# Altium integrated library Microchip PIC16 Part 1.IntLib: 1800 symbols (part 33 of 93)
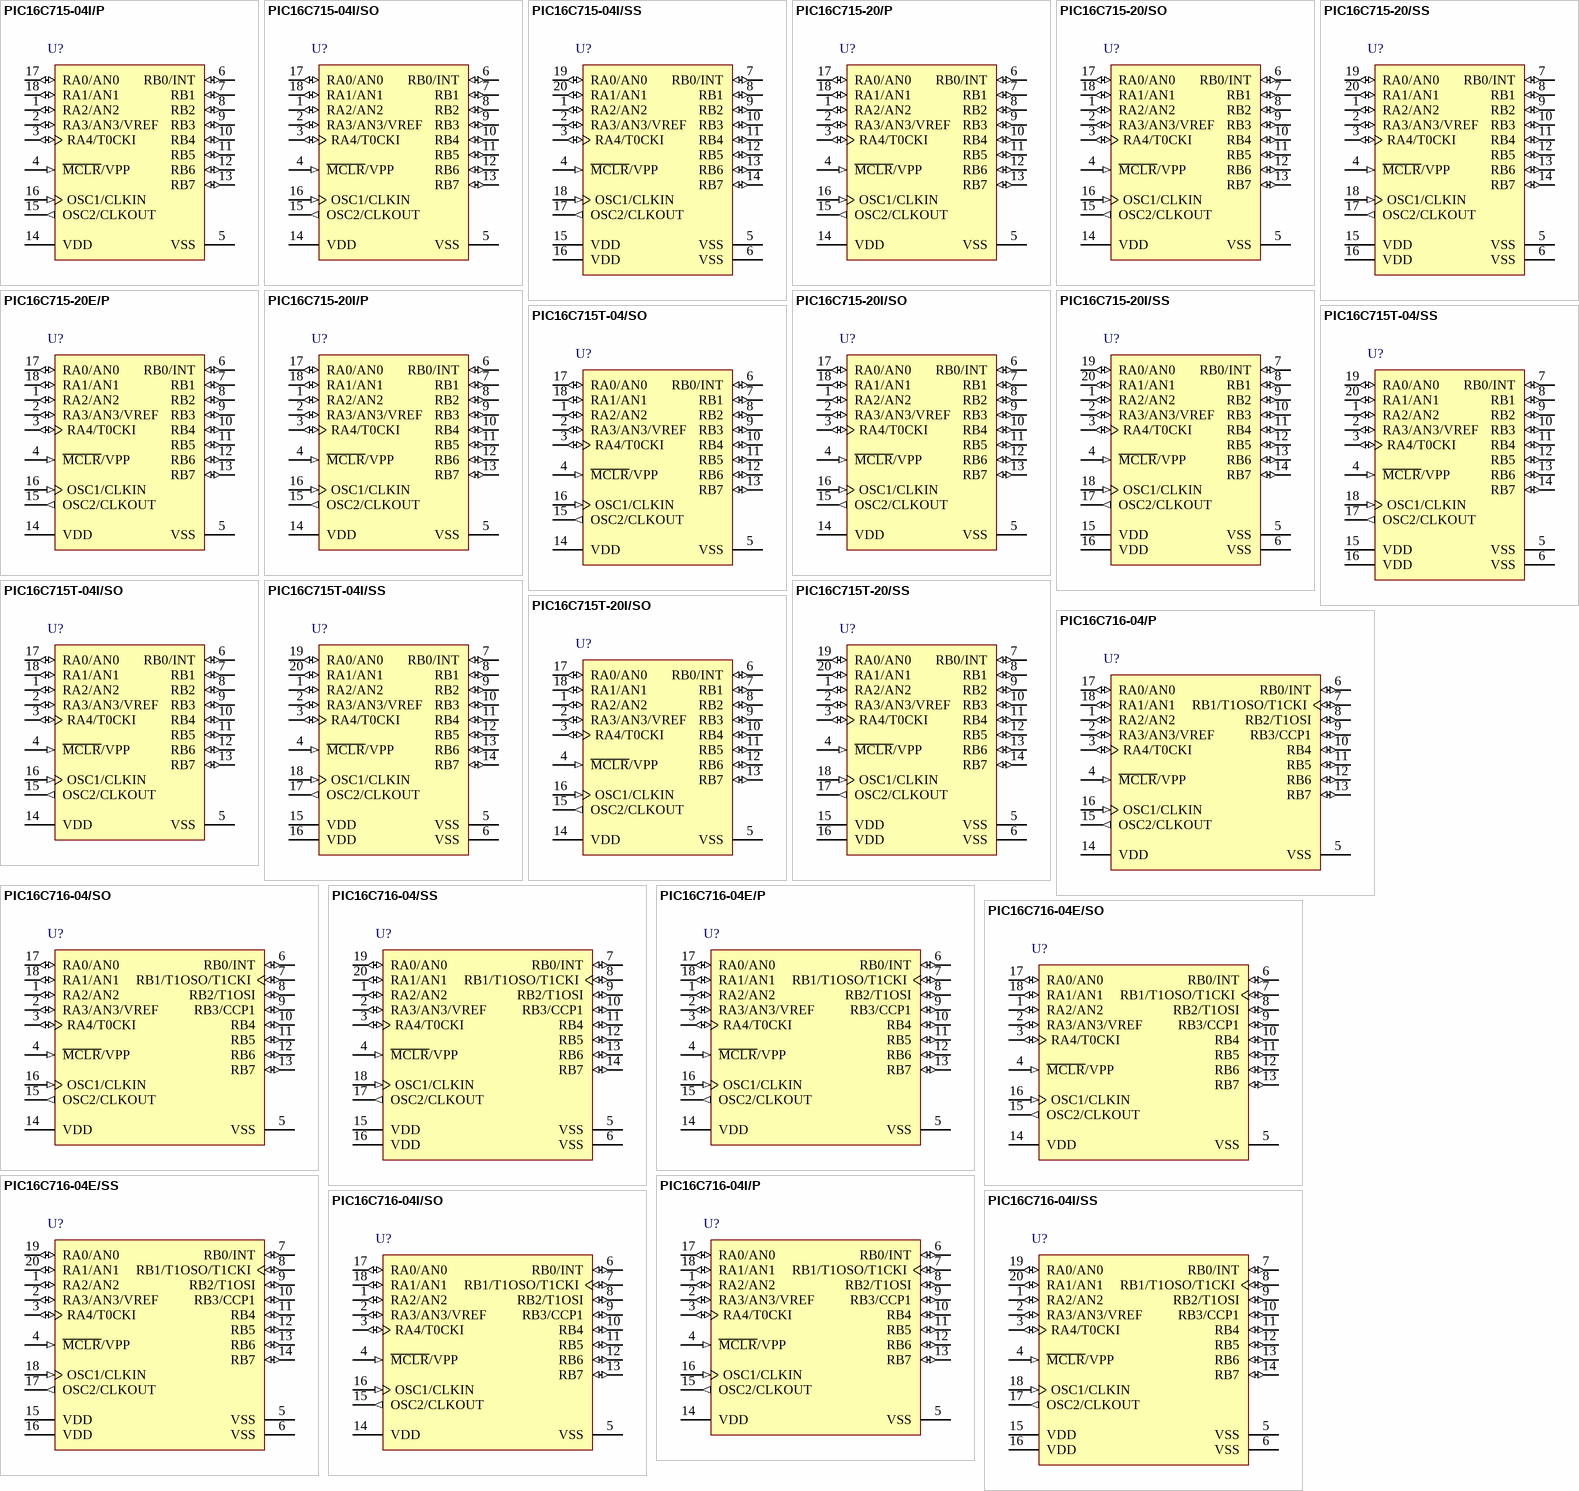
[diagram p132: symbols PIC16C715-04I/P to PIC16C716-04I/SS]

## PIC16C715-04I/P
designator U?
8-Bit CMOS Microcontroller with A/D Converter, 4 MHz, 13 I/O, -40 to 85 degC, 18-pin PDIP (P18), Tube; Manufacturer: Microchip; PartNumber: PIC16C715-04I/P; # of A/D Channels: 4; Digital Communication: 0 -UART, 0 -A/E/USART, 0 -SPI, 0 -I2C; I/O Pins: 13; Memory Type: OTP; Operation Voltage Range: 4V - 6V; Program Memory KBytes: 3.5; Program Memory KWords: 2; RAM: 128; Timers: 1 - 8-bit; DatasheetVersion: Rev. A; PackageVersion: C04-007B, 12/2012; PackageReference: PDIP-P18; PackageDescription: 18-Lead Plastic Dual In-Line, Row Spacing 7.62 mm, 22.86 x 6.6 mm Body, 2.54 mm Pitch; Supplier 1: Digi-Key; Supplier Part Number 1: PIC16C715-04I/P-ND; Supplier 2: Newark; Supplier Part Number 2: 23C4529; Supplier 3: Mouser; Supplier Part Number 3: 579-PIC16C715-04I/P; Max. CPU Speed MHz: 4; Packing: TUBE; RoHS: TRUE; Mounting Technology: Through Hole; ComponentLink1Description: Datasheet; ComponentLink1URL: http://ww1.microchip.com/downloads/en/DeviceDoc/30272a.pdf; ComponentLink2Description: Package Specification; ComponentLink2URL: http://www.microchip.com/stellent/groups/techpub_sg/documents/packagingspec/en012702.pdf; ComponentLink3Description: URL Link1; ComponentLink3URL: Product URL:http://www.microchip.com/datasheet/PIC16C715
footprint MCHP-PDIP-P18 (DIP, 18-Leads, Body 22.83x6.604mm, Pitch 2.54mm)
pins: 1 RA2/AN2 (io), 2 RA3/AN3/VREF (io), 3 RA4/T0CKI (io), 4 ~{MCLR}/VPP (in), 5 VSS (power) "Ground reference for logic and I/O pins.", 6 RB0/INT (io), 7 RB1 (io) "PORTB is a bi-directional I/O port. PORTB can be software programmed for internal weak pull-up on all inputs.", 8 RB2 (io) "PORTB is a bi-directional I/O port. PORTB can be software programmed for internal weak pull-up on all inputs.", 9 RB3 (io) "PORTB is a bi-directional I/O port. PORTB can be software programmed for internal weak pull-up on all inputs.", 10 RB4 (io) "PORTB is a bi-directional I/O port. PORTB can be software programmed for internal weak pull-up on all inputs. Interrupt on change pin.", 11 RB5 (io) "PORTB is a bi-directional I/O port. PORTB can be software programmed for internal weak pull-up on all inputs. Interrupt on change pin.", 12 RB6 (io) "PORTB is a bi-directional I/O port. PORTB can be software programmed for internal weak pull-up on all inputs. Interrupt on change pin. Serial programming clock.", 13 RB7 (io) "PORTB is a bi-directional I/O port. PORTB can be software programmed for internal weak pull-up on all inputs. Interrupt on change pin. Serial programming data", 14 VDD (power) "Positive supply for logic and I/O pins.", 15 OSC2/CLKOUT (out), 16 OSC1/CLKIN (in), 17 RA0/AN0 (io), 18 RA1/AN1 (io)

## PIC16C715-04I/SO
designator U?
8-Bit CMOS Microcontroller with A/D Converter, 4 MHz, 13 I/O, -40 to 85 degC, 18-pin SOIC (SO18), Tube; Manufacturer: Microchip; PartNumber: PIC16C715-04I/SO; # of A/D Channels: 4; Digital Communication: 0 -UART, 0 -A/E/USART, 0 -SPI, 0 -I2C; I/O Pins: 13; Memory Type: OTP; Operation Voltage Range: 4V - 6V; Program Memory KBytes: 3.5; Program Memory KWords: 2; RAM: 128; Timers: 1 - 8-bit; DatasheetVersion: Rev. A; PackageVersion: C04-051C, 12/2012; PackageReference: SOIC-SO18; PackageDescription: 18-Lead Plastic Small Outline, 7.5 x 11.55 mm Body, 1.27 mm Pitch; Supplier 1: Digi-Key; Supplier Part Number 1: PIC16C715-04I/SO-ND; Supplier 2: Newark; Supplier Part Number 2: 23C4530; Supplier 3: Mouser; Supplier Part Number 3: 579-PIC16C715-04I/SO; Max. CPU Speed MHz: 4; Packing: TUBE; RoHS: TRUE; Mounting Technology: Surface Mount; ComponentLink1Description: Datasheet; ComponentLink1URL: http://ww1.microchip.com/downloads/en/DeviceDoc/30272a.pdf; ComponentLink2Description: Package Specification; ComponentLink2URL: http://www.microchip.com/stellent/groups/techpub_sg/documents/packagingspec/en012702.pdf; ComponentLink3Description: URL Link1; ComponentLink3URL: Product URL:http://www.microchip.com/datasheet/PIC16C715
footprint MCHP-SOIC-SO18_N (SOIC, 18-Leads, Body 11.55x7.5mm, Pitch 1.27mm, IPC Medium Density)
footprint MCHP-SOIC-SO18_L (SOIC, 18-Leads, Body 11.55x7.5mm, Pitch 1.27mm, IPC High Density)
footprint MCHP-SOIC-SO18_M (SOIC, 18-Leads, Body 11.55x7.5mm, Pitch 1.27mm, IPC Low Density)
pins: 1 RA2/AN2 (io), 2 RA3/AN3/VREF (io), 3 RA4/T0CKI (io), 4 ~{MCLR}/VPP (in), 5 VSS (power) "Ground reference for logic and I/O pins.", 6 RB0/INT (io), 7 RB1 (io) "PORTB is a bi-directional I/O port. PORTB can be software programmed for internal weak pull-up on all inputs.", 8 RB2 (io) "PORTB is a bi-directional I/O port. PORTB can be software programmed for internal weak pull-up on all inputs.", 9 RB3 (io) "PORTB is a bi-directional I/O port. PORTB can be software programmed for internal weak pull-up on all inputs.", 10 RB4 (io) "PORTB is a bi-directional I/O port. PORTB can be software programmed for internal weak pull-up on all inputs. Interrupt on change pin.", 11 RB5 (io) "PORTB is a bi-directional I/O port. PORTB can be software programmed for internal weak pull-up on all inputs. Interrupt on change pin.", 12 RB6 (io) "PORTB is a bi-directional I/O port. PORTB can be software programmed for internal weak pull-up on all inputs. Interrupt on change pin. Serial programming clock.", 13 RB7 (io) "PORTB is a bi-directional I/O port. PORTB can be software programmed for internal weak pull-up on all inputs. Interrupt on change pin. Serial programming data", 14 VDD (power) "Positive supply for logic and I/O pins.", 15 OSC2/CLKOUT (out), 16 OSC1/CLKIN (in), 17 RA0/AN0 (io), 18 RA1/AN1 (io)

## PIC16C715-04I/SS
designator U?
8-Bit CMOS Microcontroller with A/D Converter, 4 MHz, 13 I/O, -40 to 85 degC, 20-pin SSOP (SS20), Tube; Manufacturer: Microchip; PartNumber: PIC16C715-04I/SS; # of A/D Channels: 4; Digital Communication: 0 -UART, 0 -A/E/USART, 0 -SPI, 0 -I2C; I/O Pins: 13; Memory Type: OTP; Operation Voltage Range: 4V - 6V; Program Memory KBytes: 3.5; Program Memory KWords: 2; RAM: 128; Timers: 1 - 8-bit; DatasheetVersion: Rev. A; PackageVersion: C04-072B, 12/2012; PackageReference: SSOP-SS20; PackageDescription: 20-Lead Plastic Shrink Small Outline, 5.3 x 7.2 mm Body, 0.65 mm Pitch; Supplier 1: Digi-Key; Supplier Part Number 1: PIC16C715-04I/SS-ND; Supplier 2: Mouser; Supplier Part Number 2: 579-PIC16C715-04I/SS; Max. CPU Speed MHz: 4; Packing: TUBE; RoHS: TRUE; Mounting Technology: Surface Mount; ComponentLink1Description: Datasheet; ComponentLink1URL: http://ww1.microchip.com/downloads/en/DeviceDoc/30272a.pdf; ComponentLink2Description: Package Specification; ComponentLink2URL: http://www.microchip.com/stellent/groups/techpub_sg/documents/packagingspec/en012702.pdf; ComponentLink3Description: URL Link1; ComponentLink3URL: Product URL:http://www.microchip.com/datasheet/PIC16C715
footprint MCHP-SSOP-SS20_N (SOP, 20-Leads, Body 7.2x5.3mm, Pitch 0.65mm, IPC Medium Density)
footprint MCHP-SSOP-SS20_L (SOP, 20-Leads, Body 7.2x5.3mm, Pitch 0.65mm, IPC High Density)
footprint MCHP-SSOP-SS20_M (SOP, 20-Leads, Body 7.2x5.3mm, Pitch 0.65mm, IPC Low Density)
pins: 1 RA2/AN2 (io), 2 RA3/AN3/VREF (io), 3 RA4/T0CKI (io), 4 ~{MCLR}/VPP (in), 5 VSS (power) "Ground reference for logic and I/O pins.", 6 VSS (power) "Ground reference for logic and I/O pins.", 7 RB0/INT (io), 8 RB1 (io) "PORTB is a bi-directional I/O port. PORTB can be software programmed for internal weak pull-up on all inputs.", 9 RB2 (io) "PORTB is a bi-directional I/O port. PORTB can be software programmed for internal weak pull-up on all inputs.", 10 RB3 (io) "PORTB is a bi-directional I/O port. PORTB can be software programmed for internal weak pull-up on all inputs.", 11 RB4 (io) "PORTB is a bi-directional I/O port. PORTB can be software programmed for internal weak pull-up on all inputs. Interrupt-on-change pin.", 12 RB5 (io) "PORTB is a bi-directional I/O port. PORTB can be software programmed for internal weak pull-up on all inputs. Interrupt-on-change pin.", 13 RB6 (io) "PORTB is a bi-directional I/O port. PORTB can be software programmed for internal weak pull-up on all inputs. Interrupt-on-change pin. Serial programming clock", 14 RB7 (io) "PORTB is a bi-directional I/O port. PORTB can be software programmed for internal weak pull-up on all inputs. Interrupt-on-change pin. Serial programming data", 15 VDD (power) "Positive supply for logic and I/O pins", 16 VDD (power) "Positive supply for logic and I/O pins", 17 OSC2/CLKOUT (out), 18 OSC1/CLKIN (in), 19 RA0/AN0 (io), 20 RA1/AN1 (io)

## PIC16C715-20/P
designator U?
8-Bit CMOS Microcontroller with A/D Converter, 20 MHz, 13 I/O, 0 to 70 degC, 18-pin PDIP (P18), Tube; Manufacturer: Microchip; PartNumber: PIC16C715-20/P; # of A/D Channels: 4; Digital Communication: 0 -UART, 0 -A/E/USART, 0 -SPI, 0 -I2C; I/O Pins: 13; Max. CPU Speed MHz: 20; Memory Type: OTP; Operation Voltage Range: 4V - 6V; Program Memory KBytes: 3.5; Program Memory KWords: 2; RAM: 128; Timers: 1 - 8-bit; DatasheetVersion: Rev. A; PackageVersion: C04-007B, 12/2012; PackageReference: PDIP-P18; PackageDescription: 18-Lead Plastic Dual In-Line, Row Spacing 7.62 mm, 22.86 x 6.6 mm Body, 2.54 mm Pitch; Supplier 1: Digi-Key; Supplier Part Number 1: PIC16C715-20/P-ND; Supplier 2: Farnell; Supplier Part Number 2: 1084361; Supplier 3: Newark; Supplier Part Number 3: 97K7271; Supplier 4: Newark; Supplier Part Number 4: 69K7627; Supplier 5: Mouser; Supplier Part Number 5: 579-PIC16C715-20/P; Packing: TUBE; RoHS: TRUE; Mounting Technology: Through Hole; ComponentLink1Description: Datasheet; ComponentLink1URL: http://ww1.microchip.com/downloads/en/DeviceDoc/30272a.pdf; ComponentLink2Description: Package Specification; ComponentLink2URL: http://www.microchip.com/stellent/groups/techpub_sg/documents/packagingspec/en012702.pdf; ComponentLink3Description: URL Link1; ComponentLink3URL: Product URL:http://www.microchip.com/datasheet/PIC16C715
footprint MCHP-PDIP-P18 (DIP, 18-Leads, Body 22.83x6.604mm, Pitch 2.54mm)
pins: 1 RA2/AN2 (io), 2 RA3/AN3/VREF (io), 3 RA4/T0CKI (io), 4 ~{MCLR}/VPP (in), 5 VSS (power) "Ground reference for logic and I/O pins.", 6 RB0/INT (io), 7 RB1 (io) "PORTB is a bi-directional I/O port. PORTB can be software programmed for internal weak pull-up on all inputs.", 8 RB2 (io) "PORTB is a bi-directional I/O port. PORTB can be software programmed for internal weak pull-up on all inputs.", 9 RB3 (io) "PORTB is a bi-directional I/O port. PORTB can be software programmed for internal weak pull-up on all inputs.", 10 RB4 (io) "PORTB is a bi-directional I/O port. PORTB can be software programmed for internal weak pull-up on all inputs. Interrupt on change pin.", 11 RB5 (io) "PORTB is a bi-directional I/O port. PORTB can be software programmed for internal weak pull-up on all inputs. Interrupt on change pin.", 12 RB6 (io) "PORTB is a bi-directional I/O port. PORTB can be software programmed for internal weak pull-up on all inputs. Interrupt on change pin. Serial programming clock.", 13 RB7 (io) "PORTB is a bi-directional I/O port. PORTB can be software programmed for internal weak pull-up on all inputs. Interrupt on change pin. Serial programming data", 14 VDD (power) "Positive supply for logic and I/O pins.", 15 OSC2/CLKOUT (out), 16 OSC1/CLKIN (in), 17 RA0/AN0 (io), 18 RA1/AN1 (io)

## PIC16C715-20/SO
designator U?
8-Bit CMOS Microcontroller with A/D Converter, 20 MHz, 13 I/O, 0 to 70 degC, 18-pin SOIC (SO18), Tube; Manufacturer: Microchip; PartNumber: PIC16C715-20/SO; # of A/D Channels: 4; Digital Communication: 0 -UART, 0 -A/E/USART, 0 -SPI, 0 -I2C; I/O Pins: 13; Max. CPU Speed MHz: 20; Memory Type: OTP; Operation Voltage Range: 4V - 6V; Program Memory KBytes: 3.5; Program Memory KWords: 2; RAM: 128; Timers: 1 - 8-bit; DatasheetVersion: Rev. A; PackageVersion: C04-051C, 12/2012; PackageReference: SOIC-SO18; PackageDescription: 18-Lead Plastic Small Outline, 7.5 x 11.55 mm Body, 1.27 mm Pitch; Supplier 1: Digi-Key; Supplier Part Number 1: PIC16C715-20/SO-ND; Supplier 2: Newark; Supplier Part Number 2: 23C4533; Supplier 3: Mouser; Supplier Part Number 3: 579-PIC16C715-20/SO; Packing: TUBE; RoHS: TRUE; Mounting Technology: Surface Mount; ComponentLink1Description: Datasheet; ComponentLink1URL: http://ww1.microchip.com/downloads/en/DeviceDoc/30272a.pdf; ComponentLink2Description: Package Specification; ComponentLink2URL: http://www.microchip.com/stellent/groups/techpub_sg/documents/packagingspec/en012702.pdf; ComponentLink3Description: URL Link1; ComponentLink3URL: Product URL:http://www.microchip.com/datasheet/PIC16C715
footprint MCHP-SOIC-SO18_N (SOIC, 18-Leads, Body 11.55x7.5mm, Pitch 1.27mm, IPC Medium Density)
footprint MCHP-SOIC-SO18_L (SOIC, 18-Leads, Body 11.55x7.5mm, Pitch 1.27mm, IPC High Density)
footprint MCHP-SOIC-SO18_M (SOIC, 18-Leads, Body 11.55x7.5mm, Pitch 1.27mm, IPC Low Density)
pins: 1 RA2/AN2 (io), 2 RA3/AN3/VREF (io), 3 RA4/T0CKI (io), 4 ~{MCLR}/VPP (in), 5 VSS (power) "Ground reference for logic and I/O pins.", 6 RB0/INT (io), 7 RB1 (io) "PORTB is a bi-directional I/O port. PORTB can be software programmed for internal weak pull-up on all inputs.", 8 RB2 (io) "PORTB is a bi-directional I/O port. PORTB can be software programmed for internal weak pull-up on all inputs.", 9 RB3 (io) "PORTB is a bi-directional I/O port. PORTB can be software programmed for internal weak pull-up on all inputs.", 10 RB4 (io) "PORTB is a bi-directional I/O port. PORTB can be software programmed for internal weak pull-up on all inputs. Interrupt on change pin.", 11 RB5 (io) "PORTB is a bi-directional I/O port. PORTB can be software programmed for internal weak pull-up on all inputs. Interrupt on change pin.", 12 RB6 (io) "PORTB is a bi-directional I/O port. PORTB can be software programmed for internal weak pull-up on all inputs. Interrupt on change pin. Serial programming clock.", 13 RB7 (io) "PORTB is a bi-directional I/O port. PORTB can be software programmed for internal weak pull-up on all inputs. Interrupt on change pin. Serial programming data", 14 VDD (power) "Positive supply for logic and I/O pins.", 15 OSC2/CLKOUT (out), 16 OSC1/CLKIN (in), 17 RA0/AN0 (io), 18 RA1/AN1 (io)

## PIC16C715-20/SS
designator U?
8-Bit CMOS Microcontroller with A/D Converter, 20 MHz, 13 I/O, 0 to 70 degC, 20-pin SSOP (SS20), Tube; Manufacturer: Microchip; PartNumber: PIC16C715-20/SS; # of A/D Channels: 4; Digital Communication: 0 -UART, 0 -A/E/USART, 0 -SPI, 0 -I2C; I/O Pins: 13; Max. CPU Speed MHz: 20; Memory Type: OTP; Operation Voltage Range: 4V - 6V; Program Memory KBytes: 3.5; Program Memory KWords: 2; RAM: 128; Timers: 1 - 8-bit; DatasheetVersion: Rev. A; PackageVersion: C04-072B, 12/2012; PackageReference: SSOP-SS20; PackageDescription: 20-Lead Plastic Shrink Small Outline, 5.3 x 7.2 mm Body, 0.65 mm Pitch; Supplier 1: Digi-Key; Supplier Part Number 1: PIC16C715-20/SS-ND; Supplier 2: Mouser; Supplier Part Number 2: 579-PIC16C715-20/SS; Packing: TUBE; RoHS: TRUE; Mounting Technology: Surface Mount; ComponentLink1Description: Datasheet; ComponentLink1URL: http://ww1.microchip.com/downloads/en/DeviceDoc/30272a.pdf; ComponentLink2Description: Package Specification; ComponentLink2URL: http://www.microchip.com/stellent/groups/techpub_sg/documents/packagingspec/en012702.pdf; ComponentLink3Description: URL Link1; ComponentLink3URL: Product URL:http://www.microchip.com/datasheet/PIC16C715
footprint MCHP-SSOP-SS20_N (SOP, 20-Leads, Body 7.2x5.3mm, Pitch 0.65mm, IPC Medium Density)
footprint MCHP-SSOP-SS20_L (SOP, 20-Leads, Body 7.2x5.3mm, Pitch 0.65mm, IPC High Density)
footprint MCHP-SSOP-SS20_M (SOP, 20-Leads, Body 7.2x5.3mm, Pitch 0.65mm, IPC Low Density)
pins: 1 RA2/AN2 (io), 2 RA3/AN3/VREF (io), 3 RA4/T0CKI (io), 4 ~{MCLR}/VPP (in), 5 VSS (power) "Ground reference for logic and I/O pins.", 6 VSS (power) "Ground reference for logic and I/O pins.", 7 RB0/INT (io), 8 RB1 (io) "PORTB is a bi-directional I/O port. PORTB can be software programmed for internal weak pull-up on all inputs.", 9 RB2 (io) "PORTB is a bi-directional I/O port. PORTB can be software programmed for internal weak pull-up on all inputs.", 10 RB3 (io) "PORTB is a bi-directional I/O port. PORTB can be software programmed for internal weak pull-up on all inputs.", 11 RB4 (io) "PORTB is a bi-directional I/O port. PORTB can be software programmed for internal weak pull-up on all inputs. Interrupt-on-change pin.", 12 RB5 (io) "PORTB is a bi-directional I/O port. PORTB can be software programmed for internal weak pull-up on all inputs. Interrupt-on-change pin.", 13 RB6 (io) "PORTB is a bi-directional I/O port. PORTB can be software programmed for internal weak pull-up on all inputs. Interrupt-on-change pin. Serial programming clock", 14 RB7 (io) "PORTB is a bi-directional I/O port. PORTB can be software programmed for internal weak pull-up on all inputs. Interrupt-on-change pin. Serial programming data", 15 VDD (power) "Positive supply for logic and I/O pins", 16 VDD (power) "Positive supply for logic and I/O pins", 17 OSC2/CLKOUT (out), 18 OSC1/CLKIN (in), 19 RA0/AN0 (io), 20 RA1/AN1 (io)

## PIC16C715-20E/P
designator U?
8-Bit CMOS Microcontroller with A/D Converter, 20 MHz, 13 I/O, -40 to 125 degC, 18-pin PDIP (P18), Tube; Manufacturer: Microchip; PartNumber: PIC16C715-20E/P; # of A/D Channels: 4; Digital Communication: 0 -UART, 0 -A/E/USART, 0 -SPI, 0 -I2C; I/O Pins: 13; Max. CPU Speed MHz: 20; Memory Type: OTP; Operation Voltage Range: 4V - 6V; Program Memory KBytes: 3.5; Program Memory KWords: 2; RAM: 128; Timers: 1 - 8-bit; DatasheetVersion: Rev. A; PackageVersion: C04-007B, 12/2012; PackageReference: PDIP-P18; PackageDescription: 18-Lead Plastic Dual In-Line, Row Spacing 7.62 mm, 22.86 x 6.6 mm Body, 2.54 mm Pitch; Supplier 1: Digi-Key; Supplier Part Number 1: PIC16C715-20E/P-ND; Supplier 2: Mouser; Supplier Part Number 2: 579-PIC16C715-20E/P; Packing: TUBE; RoHS: TRUE; Mounting Technology: Through Hole; ComponentLink1Description: Datasheet; ComponentLink1URL: http://ww1.microchip.com/downloads/en/DeviceDoc/30272a.pdf; ComponentLink2Description: Package Specification; ComponentLink2URL: http://www.microchip.com/stellent/groups/techpub_sg/documents/packagingspec/en012702.pdf; ComponentLink3Description: URL Link1; ComponentLink3URL: Product URL:http://www.microchip.com/datasheet/PIC16C715
footprint MCHP-PDIP-P18 (DIP, 18-Leads, Body 22.83x6.604mm, Pitch 2.54mm)
pins: 1 RA2/AN2 (io), 2 RA3/AN3/VREF (io), 3 RA4/T0CKI (io), 4 ~{MCLR}/VPP (in), 5 VSS (power) "Ground reference for logic and I/O pins.", 6 RB0/INT (io), 7 RB1 (io) "PORTB is a bi-directional I/O port. PORTB can be software programmed for internal weak pull-up on all inputs.", 8 RB2 (io) "PORTB is a bi-directional I/O port. PORTB can be software programmed for internal weak pull-up on all inputs.", 9 RB3 (io) "PORTB is a bi-directional I/O port. PORTB can be software programmed for internal weak pull-up on all inputs.", 10 RB4 (io) "PORTB is a bi-directional I/O port. PORTB can be software programmed for internal weak pull-up on all inputs. Interrupt on change pin.", 11 RB5 (io) "PORTB is a bi-directional I/O port. PORTB can be software programmed for internal weak pull-up on all inputs. Interrupt on change pin.", 12 RB6 (io) "PORTB is a bi-directional I/O port. PORTB can be software programmed for internal weak pull-up on all inputs. Interrupt on change pin. Serial programming clock.", 13 RB7 (io) "PORTB is a bi-directional I/O port. PORTB can be software programmed for internal weak pull-up on all inputs. Interrupt on change pin. Serial programming data", 14 VDD (power) "Positive supply for logic and I/O pins.", 15 OSC2/CLKOUT (out), 16 OSC1/CLKIN (in), 17 RA0/AN0 (io), 18 RA1/AN1 (io)

## PIC16C715-20I/P
designator U?
8-Bit CMOS Microcontroller with A/D Converter, 20 MHz, 13 I/O, -40 to 85 degC, 18-pin PDIP (P18), Tube; Manufacturer: Microchip; PartNumber: PIC16C715-20I/P; # of A/D Channels: 4; Digital Communication: 0 -UART, 0 -A/E/USART, 0 -SPI, 0 -I2C; I/O Pins: 13; Max. CPU Speed MHz: 20; Memory Type: OTP; Operation Voltage Range: 4V - 6V; Program Memory KBytes: 3.5; Program Memory KWords: 2; RAM: 128; Timers: 1 - 8-bit; DatasheetVersion: Rev. A; PackageVersion: C04-007B, 12/2012; PackageReference: PDIP-P18; PackageDescription: 18-Lead Plastic Dual In-Line, Row Spacing 7.62 mm, 22.86 x 6.6 mm Body, 2.54 mm Pitch; Supplier 1: Digi-Key; Supplier Part Number 1: PIC16C715-20I/P-ND; Supplier 2: Farnell; Supplier Part Number 2: 9759867; Supplier 3: Newark; Supplier Part Number 3: 23C4538; Supplier 4: Mouser; Supplier Part Number 4: 579-PIC16C715-20I/P; Packing: TUBE; RoHS: TRUE; Mounting Technology: Through Hole; ComponentLink1Description: Datasheet; ComponentLink1URL: http://ww1.microchip.com/downloads/en/DeviceDoc/30272a.pdf; ComponentLink2Description: Package Specification; ComponentLink2URL: http://www.microchip.com/stellent/groups/techpub_sg/documents/packagingspec/en012702.pdf; ComponentLink3Description: URL Link1; ComponentLink3URL: Product URL:http://www.microchip.com/datasheet/PIC16C715
footprint MCHP-PDIP-P18 (DIP, 18-Leads, Body 22.83x6.604mm, Pitch 2.54mm)
pins: 1 RA2/AN2 (io), 2 RA3/AN3/VREF (io), 3 RA4/T0CKI (io), 4 ~{MCLR}/VPP (in), 5 VSS (power) "Ground reference for logic and I/O pins.", 6 RB0/INT (io), 7 RB1 (io) "PORTB is a bi-directional I/O port. PORTB can be software programmed for internal weak pull-up on all inputs.", 8 RB2 (io) "PORTB is a bi-directional I/O port. PORTB can be software programmed for internal weak pull-up on all inputs.", 9 RB3 (io) "PORTB is a bi-directional I/O port. PORTB can be software programmed for internal weak pull-up on all inputs.", 10 RB4 (io) "PORTB is a bi-directional I/O port. PORTB can be software programmed for internal weak pull-up on all inputs. Interrupt on change pin.", 11 RB5 (io) "PORTB is a bi-directional I/O port. PORTB can be software programmed for internal weak pull-up on all inputs. Interrupt on change pin.", 12 RB6 (io) "PORTB is a bi-directional I/O port. PORTB can be software programmed for internal weak pull-up on all inputs. Interrupt on change pin. Serial programming clock.", 13 RB7 (io) "PORTB is a bi-directional I/O port. PORTB can be software programmed for internal weak pull-up on all inputs. Interrupt on change pin. Serial programming data", 14 VDD (power) "Positive supply for logic and I/O pins.", 15 OSC2/CLKOUT (out), 16 OSC1/CLKIN (in), 17 RA0/AN0 (io), 18 RA1/AN1 (io)

## PIC16C715-20I/SO
designator U?
8-Bit CMOS Microcontroller with A/D Converter, 20 MHz, 13 I/O, -40 to 85 degC, 18-pin SOIC (SO18), Tube; Manufacturer: Microchip; PartNumber: PIC16C715-20I/SO; # of A/D Channels: 4; Digital Communication: 0 -UART, 0 -A/E/USART, 0 -SPI, 0 -I2C; I/O Pins: 13; Max. CPU Speed MHz: 20; Memory Type: OTP; Operation Voltage Range: 4V - 6V; Program Memory KBytes: 3.5; Program Memory KWords: 2; RAM: 128; Timers: 1 - 8-bit; DatasheetVersion: Rev. A; PackageVersion: C04-051C, 12/2012; PackageReference: SOIC-SO18; PackageDescription: 18-Lead Plastic Small Outline, 7.5 x 11.55 mm Body, 1.27 mm Pitch; Supplier 1: Digi-Key; Supplier Part Number 1: PIC16C715-20I/SO-ND; Supplier 2: Farnell; Supplier Part Number 2: 1084362; Supplier 3: Newark; Supplier Part Number 3: 97K7273; Supplier 4: Mouser; Supplier Part Number 4: 579-PIC16C715-20I/SO; Packing: TUBE; RoHS: TRUE; Mounting Technology: Surface Mount; ComponentLink1Description: Datasheet; ComponentLink1URL: http://ww1.microchip.com/downloads/en/DeviceDoc/30272a.pdf; ComponentLink2Description: Package Specification; ComponentLink2URL: http://www.microchip.com/stellent/groups/techpub_sg/documents/packagingspec/en012702.pdf; ComponentLink3Description: URL Link1; ComponentLink3URL: Product URL:http://www.microchip.com/datasheet/PIC16C715
footprint MCHP-SOIC-SO18_N (SOIC, 18-Leads, Body 11.55x7.5mm, Pitch 1.27mm, IPC Medium Density)
footprint MCHP-SOIC-SO18_L (SOIC, 18-Leads, Body 11.55x7.5mm, Pitch 1.27mm, IPC High Density)
footprint MCHP-SOIC-SO18_M (SOIC, 18-Leads, Body 11.55x7.5mm, Pitch 1.27mm, IPC Low Density)
pins: 1 RA2/AN2 (io), 2 RA3/AN3/VREF (io), 3 RA4/T0CKI (io), 4 ~{MCLR}/VPP (in), 5 VSS (power) "Ground reference for logic and I/O pins.", 6 RB0/INT (io), 7 RB1 (io) "PORTB is a bi-directional I/O port. PORTB can be software programmed for internal weak pull-up on all inputs.", 8 RB2 (io) "PORTB is a bi-directional I/O port. PORTB can be software programmed for internal weak pull-up on all inputs.", 9 RB3 (io) "PORTB is a bi-directional I/O port. PORTB can be software programmed for internal weak pull-up on all inputs.", 10 RB4 (io) "PORTB is a bi-directional I/O port. PORTB can be software programmed for internal weak pull-up on all inputs. Interrupt on change pin.", 11 RB5 (io) "PORTB is a bi-directional I/O port. PORTB can be software programmed for internal weak pull-up on all inputs. Interrupt on change pin.", 12 RB6 (io) "PORTB is a bi-directional I/O port. PORTB can be software programmed for internal weak pull-up on all inputs. Interrupt on change pin. Serial programming clock.", 13 RB7 (io) "PORTB is a bi-directional I/O port. PORTB can be software programmed for internal weak pull-up on all inputs. Interrupt on change pin. Serial programming data", 14 VDD (power) "Positive supply for logic and I/O pins.", 15 OSC2/CLKOUT (out), 16 OSC1/CLKIN (in), 17 RA0/AN0 (io), 18 RA1/AN1 (io)

## PIC16C715-20I/SS
designator U?
8-Bit CMOS Microcontroller with A/D Converter, 20 MHz, 13 I/O, -40 to 85 degC, 20-pin SSOP (SS20), Tube; Manufacturer: Microchip; PartNumber: PIC16C715-20I/SS; # of A/D Channels: 4; Digital Communication: 0 -UART, 0 -A/E/USART, 0 -SPI, 0 -I2C; I/O Pins: 13; Max. CPU Speed MHz: 20; Memory Type: OTP; Operation Voltage Range: 4V - 6V; Program Memory KBytes: 3.5; Program Memory KWords: 2; RAM: 128; Timers: 1 - 8-bit; DatasheetVersion: Rev. A; PackageVersion: C04-072B, 12/2012; PackageReference: SSOP-SS20; PackageDescription: 20-Lead Plastic Shrink Small Outline, 5.3 x 7.2 mm Body, 0.65 mm Pitch; Supplier 1: Digi-Key; Supplier Part Number 1: PIC16C715-20I/SS-ND; Supplier 2: Mouser; Supplier Part Number 2: 579-PIC16C715-20I/SS; Packing: TUBE; RoHS: TRUE; Mounting Technology: Surface Mount; ComponentLink1Description: Datasheet; ComponentLink1URL: http://ww1.microchip.com/downloads/en/DeviceDoc/30272a.pdf; ComponentLink2Description: Package Specification; ComponentLink2URL: http://www.microchip.com/stellent/groups/techpub_sg/documents/packagingspec/en012702.pdf; ComponentLink3Description: URL Link1; ComponentLink3URL: Product URL:http://www.microchip.com/datasheet/PIC16C715
footprint MCHP-SSOP-SS20_N (SOP, 20-Leads, Body 7.2x5.3mm, Pitch 0.65mm, IPC Medium Density)
footprint MCHP-SSOP-SS20_L (SOP, 20-Leads, Body 7.2x5.3mm, Pitch 0.65mm, IPC High Density)
footprint MCHP-SSOP-SS20_M (SOP, 20-Leads, Body 7.2x5.3mm, Pitch 0.65mm, IPC Low Density)
pins: 1 RA2/AN2 (io), 2 RA3/AN3/VREF (io), 3 RA4/T0CKI (io), 4 ~{MCLR}/VPP (in), 5 VSS (power) "Ground reference for logic and I/O pins.", 6 VSS (power) "Ground reference for logic and I/O pins.", 7 RB0/INT (io), 8 RB1 (io) "PORTB is a bi-directional I/O port. PORTB can be software programmed for internal weak pull-up on all inputs.", 9 RB2 (io) "PORTB is a bi-directional I/O port. PORTB can be software programmed for internal weak pull-up on all inputs.", 10 RB3 (io) "PORTB is a bi-directional I/O port. PORTB can be software programmed for internal weak pull-up on all inputs.", 11 RB4 (io) "PORTB is a bi-directional I/O port. PORTB can be software programmed for internal weak pull-up on all inputs. Interrupt-on-change pin.", 12 RB5 (io) "PORTB is a bi-directional I/O port. PORTB can be software programmed for internal weak pull-up on all inputs. Interrupt-on-change pin.", 13 RB6 (io) "PORTB is a bi-directional I/O port. PORTB can be software programmed for internal weak pull-up on all inputs. Interrupt-on-change pin. Serial programming clock", 14 RB7 (io) "PORTB is a bi-directional I/O port. PORTB can be software programmed for internal weak pull-up on all inputs. Interrupt-on-change pin. Serial programming data", 15 VDD (power) "Positive supply for logic and I/O pins", 16 VDD (power) "Positive supply for logic and I/O pins", 17 OSC2/CLKOUT (out), 18 OSC1/CLKIN (in), 19 RA0/AN0 (io), 20 RA1/AN1 (io)

## PIC16C715T-04/SO
designator U?
8-Bit CMOS Microcontroller with A/D Converter, 4 MHz, 13 I/O, 0 to 70 degC, 18-pin SOIC (SO18), Tape and Reel; Manufacturer: Microchip; PartNumber: PIC16C715T-04/SO; # of A/D Channels: 4; Digital Communication: 0 -UART, 0 -A/E/USART, 0 -SPI, 0 -I2C; I/O Pins: 13; Memory Type: OTP; Operation Voltage Range: 4V - 6V; Packing: T/R; Program Memory KBytes: 3.5; Program Memory KWords: 2; RAM: 128; Timers: 1- 8-bit; DatasheetVersion: Rev. A; PackageVersion: C04-051C, 12/2012; PackageReference: SOIC-SO18; PackageDescription: 18-Lead Plastic Small Outline, 7.5 x 11.55 mm Body, 1.27 mm Pitch; Supplier 1: Digi-Key; Supplier Part Number 1: PIC16C715T-04/SO-ND; Supplier 2: Mouser; Supplier Part Number 2: 579-PIC16C715T-04/SO; Max. CPU Speed MHz: 4; RoHS: TRUE; Mounting Technology: Surface Mount; ComponentLink1Description: Datasheet; ComponentLink1URL: http://ww1.microchip.com/downloads/en/DeviceDoc/30272a.pdf; ComponentLink2Description: Package Specification; ComponentLink2URL: http://www.microchip.com/stellent/groups/techpub_sg/documents/packagingspec/en012702.pdf; ComponentLink3Description: URL Link1; ComponentLink3URL: Product URL:http://www.microchip.com/datasheet/PIC16C715
footprint MCHP-SOIC-SO18_N (SOIC, 18-Leads, Body 11.55x7.5mm, Pitch 1.27mm, IPC Medium Density)
footprint MCHP-SOIC-SO18_L (SOIC, 18-Leads, Body 11.55x7.5mm, Pitch 1.27mm, IPC High Density)
footprint MCHP-SOIC-SO18_M (SOIC, 18-Leads, Body 11.55x7.5mm, Pitch 1.27mm, IPC Low Density)
pins: 1 RA2/AN2 (io), 2 RA3/AN3/VREF (io), 3 RA4/T0CKI (io), 4 ~{MCLR}/VPP (in), 5 VSS (power) "Ground reference for logic and I/O pins.", 6 RB0/INT (io), 7 RB1 (io) "PORTB is a bi-directional I/O port. PORTB can be software programmed for internal weak pull-up on all inputs.", 8 RB2 (io) "PORTB is a bi-directional I/O port. PORTB can be software programmed for internal weak pull-up on all inputs.", 9 RB3 (io) "PORTB is a bi-directional I/O port. PORTB can be software programmed for internal weak pull-up on all inputs.", 10 RB4 (io) "PORTB is a bi-directional I/O port. PORTB can be software programmed for internal weak pull-up on all inputs. Interrupt on change pin.", 11 RB5 (io) "PORTB is a bi-directional I/O port. PORTB can be software programmed for internal weak pull-up on all inputs. Interrupt on change pin.", 12 RB6 (io) "PORTB is a bi-directional I/O port. PORTB can be software programmed for internal weak pull-up on all inputs. Interrupt on change pin. Serial programming clock.", 13 RB7 (io) "PORTB is a bi-directional I/O port. PORTB can be software programmed for internal weak pull-up on all inputs. Interrupt on change pin. Serial programming data", 14 VDD (power) "Positive supply for logic and I/O pins.", 15 OSC2/CLKOUT (out), 16 OSC1/CLKIN (in), 17 RA0/AN0 (io), 18 RA1/AN1 (io)

## PIC16C715T-04/SS
designator U?
8-Bit CMOS Microcontroller with A/D Converter, 4 MHz, 13 I/O, 0 to 70 degC, 20-pin SSOP (SS20), Tape and Reel; Manufacturer: Microchip; PartNumber: PIC16C715T-04/SS; # of A/D Channels: 4; I/O Pins: 13; Memory Type: OTP; Operation Voltage Range: 4V - 6V; Packing: T/R; Program Memory KBytes: 3.5; Program Memory KWords: 2; RAM: 128; Timers: 1 - 8-bit; DatasheetVersion: Rev. A; PackageVersion: C04-072B, 12/2012; PackageReference: SSOP-SS20; PackageDescription: 20-Lead Plastic Shrink Small Outline, 5.3 x 7.2 mm Body, 0.65 mm Pitch; Supplier 1: Digi-Key; Supplier Part Number 1: PIC16C715T-04/SS-ND; Supplier 2: Mouser; Supplier Part Number 2: 579-PIC16C715T-04/SS; Max. CPU Speed MHz: 4; RoHS: TRUE; Mounting Technology: Surface Mount; ComponentLink1Description: Datasheet; ComponentLink1URL: http://ww1.microchip.com/downloads/en/DeviceDoc/30272a.pdf; ComponentLink2Description: Package Specification; ComponentLink2URL: http://www.microchip.com/stellent/groups/techpub_sg/documents/packagingspec/en012702.pdf; ComponentLink3Description: URL Link1; ComponentLink3URL: Product URL:http://www.microchip.com/datasheet/PIC16C715
footprint MCHP-SSOP-SS20_N (SOP, 20-Leads, Body 7.2x5.3mm, Pitch 0.65mm, IPC Medium Density)
footprint MCHP-SSOP-SS20_L (SOP, 20-Leads, Body 7.2x5.3mm, Pitch 0.65mm, IPC High Density)
footprint MCHP-SSOP-SS20_M (SOP, 20-Leads, Body 7.2x5.3mm, Pitch 0.65mm, IPC Low Density)
pins: 1 RA2/AN2 (io), 2 RA3/AN3/VREF (io), 3 RA4/T0CKI (io), 4 ~{MCLR}/VPP (in), 5 VSS (power) "Ground reference for logic and I/O pins.", 6 VSS (power) "Ground reference for logic and I/O pins.", 7 RB0/INT (io), 8 RB1 (io) "PORTB is a bi-directional I/O port. PORTB can be software programmed for internal weak pull-up on all inputs.", 9 RB2 (io) "PORTB is a bi-directional I/O port. PORTB can be software programmed for internal weak pull-up on all inputs.", 10 RB3 (io) "PORTB is a bi-directional I/O port. PORTB can be software programmed for internal weak pull-up on all inputs.", 11 RB4 (io) "PORTB is a bi-directional I/O port. PORTB can be software programmed for internal weak pull-up on all inputs. Interrupt-on-change pin.", 12 RB5 (io) "PORTB is a bi-directional I/O port. PORTB can be software programmed for internal weak pull-up on all inputs. Interrupt-on-change pin.", 13 RB6 (io) "PORTB is a bi-directional I/O port. PORTB can be software programmed for internal weak pull-up on all inputs. Interrupt-on-change pin. Serial programming clock", 14 RB7 (io) "PORTB is a bi-directional I/O port. PORTB can be software programmed for internal weak pull-up on all inputs. Interrupt-on-change pin. Serial programming data", 15 VDD (power) "Positive supply for logic and I/O pins", 16 VDD (power) "Positive supply for logic and I/O pins", 17 OSC2/CLKOUT (out), 18 OSC1/CLKIN (in), 19 RA0/AN0 (io), 20 RA1/AN1 (io)

## PIC16C715T-04I/SO
designator U?
8-Bit CMOS Microcontroller with A/D Converter, 4 MHz, 13 I/O, -40 to 85 degC, 18-pin SOIC (SO18), Tape and Reel; Manufacturer: Microchip; PartNumber: PIC16C715T-04I/SO; # of A/D Channels: 4; Digital Communication: 0 -UART, 0 -A/E/USART, 0 -SPI, 0 -I2C; I/O Pins: 13; Memory Type: OTP; Operation Voltage Range: 4V - 6V; Packing: T/R; Program Memory KBytes: 3.5; Program Memory KWords: 2; RAM: 128; Timers: 1 - 8-bit; DatasheetVersion: Rev. A; PackageVersion: C04-051C, 12/2012; PackageReference: SOIC-SO18; PackageDescription: 18-Lead Plastic Small Outline, 7.5 x 11.55 mm Body, 1.27 mm Pitch; Supplier 1: Digi-Key; Supplier Part Number 1: PIC16C715T-04I/SO-ND; Supplier 2: Mouser; Supplier Part Number 2: 579-16C715T-04I/SO; Max. CPU Speed MHz: 4; RoHS: TRUE; Mounting Technology: Surface Mount; ComponentLink1Description: Datasheet; ComponentLink1URL: http://ww1.microchip.com/downloads/en/DeviceDoc/30272a.pdf; ComponentLink2Description: Package Specification; ComponentLink2URL: http://www.microchip.com/stellent/groups/techpub_sg/documents/packagingspec/en012702.pdf; ComponentLink3Description: URL Link1; ComponentLink3URL: Product URL:http://www.microchip.com/datasheet/PIC16C715
footprint MCHP-SOIC-SO18_N (SOIC, 18-Leads, Body 11.55x7.5mm, Pitch 1.27mm, IPC Medium Density)
footprint MCHP-SOIC-SO18_L (SOIC, 18-Leads, Body 11.55x7.5mm, Pitch 1.27mm, IPC High Density)
footprint MCHP-SOIC-SO18_M (SOIC, 18-Leads, Body 11.55x7.5mm, Pitch 1.27mm, IPC Low Density)
pins: 1 RA2/AN2 (io), 2 RA3/AN3/VREF (io), 3 RA4/T0CKI (io), 4 ~{MCLR}/VPP (in), 5 VSS (power) "Ground reference for logic and I/O pins.", 6 RB0/INT (io), 7 RB1 (io) "PORTB is a bi-directional I/O port. PORTB can be software programmed for internal weak pull-up on all inputs.", 8 RB2 (io) "PORTB is a bi-directional I/O port. PORTB can be software programmed for internal weak pull-up on all inputs.", 9 RB3 (io) "PORTB is a bi-directional I/O port. PORTB can be software programmed for internal weak pull-up on all inputs.", 10 RB4 (io) "PORTB is a bi-directional I/O port. PORTB can be software programmed for internal weak pull-up on all inputs. Interrupt on change pin.", 11 RB5 (io) "PORTB is a bi-directional I/O port. PORTB can be software programmed for internal weak pull-up on all inputs. Interrupt on change pin.", 12 RB6 (io) "PORTB is a bi-directional I/O port. PORTB can be software programmed for internal weak pull-up on all inputs. Interrupt on change pin. Serial programming clock.", 13 RB7 (io) "PORTB is a bi-directional I/O port. PORTB can be software programmed for internal weak pull-up on all inputs. Interrupt on change pin. Serial programming data", 14 VDD (power) "Positive supply for logic and I/O pins.", 15 OSC2/CLKOUT (out), 16 OSC1/CLKIN (in), 17 RA0/AN0 (io), 18 RA1/AN1 (io)

## PIC16C715T-04I/SS
designator U?
8-Bit CMOS Microcontroller with A/D Converter, 4 MHz, 13 I/O, -40 to 85 degC, 20-pin SSOP (SS20), Tape and Reel; Manufacturer: Microchip; PartNumber: PIC16C715T-04I/SS; # of A/D Channels: 4; Digital Communication: 0 -UART, 0 -A/E/USART, 0 -SPI, 0 -I2C; I/O Pins: 13; Memory Type: OTP; Operation Voltage Range: 4V - 6V; Packing: T/R; Program Memory KBytes: 3.5; Program Memory KWords: 2; RAM: 128; Timers: 1 - 8-bit; DatasheetVersion: Rev. A; PackageVersion: C04-072B, 12/2012; PackageReference: SSOP-SS20; PackageDescription: 20-Lead Plastic Shrink Small Outline, 5.3 x 7.2 mm Body, 0.65 mm Pitch; Supplier 1: Digi-Key; Supplier Part Number 1: PIC16C715T-04I/SS-ND; Supplier 2: Mouser; Supplier Part Number 2: 579-16C715T-04I/SS; Max. CPU Speed MHz: 4; RoHS: TRUE; Mounting Technology: Surface Mount; ComponentLink1Description: Datasheet; ComponentLink1URL: http://ww1.microchip.com/downloads/en/DeviceDoc/30272a.pdf; ComponentLink2Description: Package Specification; ComponentLink2URL: http://www.microchip.com/stellent/groups/techpub_sg/documents/packagingspec/en012702.pdf; ComponentLink3Description: URL Link1; ComponentLink3URL: Product URL:http://www.microchip.com/datasheet/PIC16C715
footprint MCHP-SSOP-SS20_N (SOP, 20-Leads, Body 7.2x5.3mm, Pitch 0.65mm, IPC Medium Density)
footprint MCHP-SSOP-SS20_L (SOP, 20-Leads, Body 7.2x5.3mm, Pitch 0.65mm, IPC High Density)
footprint MCHP-SSOP-SS20_M (SOP, 20-Leads, Body 7.2x5.3mm, Pitch 0.65mm, IPC Low Density)
pins: 1 RA2/AN2 (io), 2 RA3/AN3/VREF (io), 3 RA4/T0CKI (io), 4 ~{MCLR}/VPP (in), 5 VSS (power) "Ground reference for logic and I/O pins.", 6 VSS (power) "Ground reference for logic and I/O pins.", 7 RB0/INT (io), 8 RB1 (io) "PORTB is a bi-directional I/O port. PORTB can be software programmed for internal weak pull-up on all inputs.", 9 RB2 (io) "PORTB is a bi-directional I/O port. PORTB can be software programmed for internal weak pull-up on all inputs.", 10 RB3 (io) "PORTB is a bi-directional I/O port. PORTB can be software programmed for internal weak pull-up on all inputs.", 11 RB4 (io) "PORTB is a bi-directional I/O port. PORTB can be software programmed for internal weak pull-up on all inputs. Interrupt-on-change pin.", 12 RB5 (io) "PORTB is a bi-directional I/O port. PORTB can be software programmed for internal weak pull-up on all inputs. Interrupt-on-change pin.", 13 RB6 (io) "PORTB is a bi-directional I/O port. PORTB can be software programmed for internal weak pull-up on all inputs. Interrupt-on-change pin. Serial programming clock", 14 RB7 (io) "PORTB is a bi-directional I/O port. PORTB can be software programmed for internal weak pull-up on all inputs. Interrupt-on-change pin. Serial programming data", 15 VDD (power) "Positive supply for logic and I/O pins", 16 VDD (power) "Positive supply for logic and I/O pins", 17 OSC2/CLKOUT (out), 18 OSC1/CLKIN (in), 19 RA0/AN0 (io), 20 RA1/AN1 (io)

## PIC16C715T-20/SS
designator U?
8-Bit CMOS Microcontroller with A/D Converter, 20 MHz, 13 I/O, 0 to 70 degC, 20-pin SSOP (SS20), Tape and Reel; Manufacturer: Microchip; PartNumber: PIC16C715T-20/SS; # of A/D Channels: 4; I/O Pins: 13; Max. CPU Speed MHz: 20; Memory Type: OTP; Operation Voltage Range: 4V - 6V; Packing: T/R; Program Memory KBytes: 3.5; Program Memory KWords: 2; RAM: 128; Timers: 1 - 8-bit; DatasheetVersion: Rev. A; PackageVersion: C04-072B, 12/2012; PackageReference: SSOP-SS20; PackageDescription: 20-Lead Plastic Shrink Small Outline, 5.3 x 7.2 mm Body, 0.65 mm Pitch; Supplier 1: Digi-Key; Supplier Part Number 1: PIC16C715T-20/SS-ND; Supplier 2: Mouser; Supplier Part Number 2: 579-PIC16C715T-20/SS; RoHS: TRUE; Mounting Technology: Surface Mount; ComponentLink1Description: Datasheet; ComponentLink1URL: http://ww1.microchip.com/downloads/en/DeviceDoc/30272a.pdf; ComponentLink2Description: Package Specification; ComponentLink2URL: http://www.microchip.com/stellent/groups/techpub_sg/documents/packagingspec/en012702.pdf; ComponentLink3Description: URL Link1; ComponentLink3URL: Product URL:http://www.microchip.com/datasheet/PIC16C715
footprint MCHP-SSOP-SS20_N (SOP, 20-Leads, Body 7.2x5.3mm, Pitch 0.65mm, IPC Medium Density)
footprint MCHP-SSOP-SS20_L (SOP, 20-Leads, Body 7.2x5.3mm, Pitch 0.65mm, IPC High Density)
footprint MCHP-SSOP-SS20_M (SOP, 20-Leads, Body 7.2x5.3mm, Pitch 0.65mm, IPC Low Density)
pins: 1 RA2/AN2 (io), 2 RA3/AN3/VREF (io), 3 RA4/T0CKI (io), 4 ~{MCLR}/VPP (in), 5 VSS (power) "Ground reference for logic and I/O pins.", 6 VSS (power) "Ground reference for logic and I/O pins.", 7 RB0/INT (io), 8 RB1 (io) "PORTB is a bi-directional I/O port. PORTB can be software programmed for internal weak pull-up on all inputs.", 9 RB2 (io) "PORTB is a bi-directional I/O port. PORTB can be software programmed for internal weak pull-up on all inputs.", 10 RB3 (io) "PORTB is a bi-directional I/O port. PORTB can be software programmed for internal weak pull-up on all inputs.", 11 RB4 (io) "PORTB is a bi-directional I/O port. PORTB can be software programmed for internal weak pull-up on all inputs. Interrupt-on-change pin.", 12 RB5 (io) "PORTB is a bi-directional I/O port. PORTB can be software programmed for internal weak pull-up on all inputs. Interrupt-on-change pin.", 13 RB6 (io) "PORTB is a bi-directional I/O port. PORTB can be software programmed for internal weak pull-up on all inputs. Interrupt-on-change pin. Serial programming clock", 14 RB7 (io) "PORTB is a bi-directional I/O port. PORTB can be software programmed for internal weak pull-up on all inputs. Interrupt-on-change pin. Serial programming data", 15 VDD (power) "Positive supply for logic and I/O pins", 16 VDD (power) "Positive supply for logic and I/O pins", 17 OSC2/CLKOUT (out), 18 OSC1/CLKIN (in), 19 RA0/AN0 (io), 20 RA1/AN1 (io)

## PIC16C715T-20I/SO
designator U?
8-Bit CMOS Microcontroller with A/D Converter, 20 MHz, 13 I/O, -40 to 85 degC, 18-pin SOIC (SO18), Tape and Reel; Manufacturer: Microchip; PartNumber: PIC16C715T-20I/SO; # of A/D Channels: 4; I/O Pins: 13; Max. CPU Speed MHz: 20; Memory Type: OTP; Operation Voltage Range: 4V - 6V; Packing: T/R; Program Memory KBytes: 3.5; Program Memory KWords: 2; RAM: 128; Timers: 1 - 8-bit; DatasheetVersion: Rev. A; PackageVersion: C04-051C, 12/2012; PackageReference: SOIC-SO18; PackageDescription: 18-Lead Plastic Small Outline, 7.5 x 11.55 mm Body, 1.27 mm Pitch; Supplier 1: Digi-Key; Supplier Part Number 1: PIC16C715T-20I/SO-ND; Supplier 2: Mouser; Supplier Part Number 2: 579-16C715T-20I/SO; RoHS: TRUE; Mounting Technology: Surface Mount; ComponentLink1Description: Datasheet; ComponentLink1URL: http://ww1.microchip.com/downloads/en/DeviceDoc/30272a.pdf; ComponentLink2Description: Package Specification; ComponentLink2URL: http://www.microchip.com/stellent/groups/techpub_sg/documents/packagingspec/en012702.pdf; ComponentLink3Description: URL Link1; ComponentLink3URL: Product URL:http://www.microchip.com/datasheet/PIC16C715
footprint MCHP-SOIC-SO18_N (SOIC, 18-Leads, Body 11.55x7.5mm, Pitch 1.27mm, IPC Medium Density)
footprint MCHP-SOIC-SO18_L (SOIC, 18-Leads, Body 11.55x7.5mm, Pitch 1.27mm, IPC High Density)
footprint MCHP-SOIC-SO18_M (SOIC, 18-Leads, Body 11.55x7.5mm, Pitch 1.27mm, IPC Low Density)
pins: 1 RA2/AN2 (io), 2 RA3/AN3/VREF (io), 3 RA4/T0CKI (io), 4 ~{MCLR}/VPP (in), 5 VSS (power) "Ground reference for logic and I/O pins.", 6 RB0/INT (io), 7 RB1 (io) "PORTB is a bi-directional I/O port. PORTB can be software programmed for internal weak pull-up on all inputs.", 8 RB2 (io) "PORTB is a bi-directional I/O port. PORTB can be software programmed for internal weak pull-up on all inputs.", 9 RB3 (io) "PORTB is a bi-directional I/O port. PORTB can be software programmed for internal weak pull-up on all inputs.", 10 RB4 (io) "PORTB is a bi-directional I/O port. PORTB can be software programmed for internal weak pull-up on all inputs. Interrupt on change pin.", 11 RB5 (io) "PORTB is a bi-directional I/O port. PORTB can be software programmed for internal weak pull-up on all inputs. Interrupt on change pin.", 12 RB6 (io) "PORTB is a bi-directional I/O port. PORTB can be software programmed for internal weak pull-up on all inputs. Interrupt on change pin. Serial programming clock.", 13 RB7 (io) "PORTB is a bi-directional I/O port. PORTB can be software programmed for internal weak pull-up on all inputs. Interrupt on change pin. Serial programming data", 14 VDD (power) "Positive supply for logic and I/O pins.", 15 OSC2/CLKOUT (out), 16 OSC1/CLKIN (in), 17 RA0/AN0 (io), 18 RA1/AN1 (io)

## PIC16C716-04/P
designator U?
8-Bit CMOS Microcontroller with A/D Converter and Capture / Compare / PWM, 4 MHz, 13 I/O, 0 to 70 degC, 18-pin PDIP (P18), Tube; Manufacturer: Microchip; PartNumber: PIC16C716-04/P; # of A/D Channels: 4; Digital Communication: 0 -UART, 0 -A/E/USART, 0 -SPI, 0 -I2C; I/O Pins: 13; Memory Type: OTP; Operation Voltage Range: 2.5V - 5.5V; Program Memory KBytes: 3.5; Program Memory KWords: 2; RAM: 128; Timers: 2 - 8-bit, 1 - 16-bit, 0 - 32-bit; DatasheetVersion: Rev. C; PackageVersion: C04-007B, 12/2012; PackageReference: PDIP-P18; PackageDescription: 18-Lead Plastic Dual In-Line, Row Spacing 7.62 mm, 22.86 x 6.6 mm Body, 2.54 mm Pitch; Supplier 1: Digi-Key; Supplier Part Number 1: PIC16C716-04/P-ND; Supplier 2: Farnell; Supplier Part Number 2: 1137319; Supplier 3: Newark; Supplier Part Number 3: 24M5878; Supplier 4: Mouser; Supplier Part Number 4: 579-PIC16C716-04/P; Max. CPU Speed MHz: 4; Packing: TUBE; RoHS: TRUE; Mounting Technology: Through Hole; ComponentLink1Description: Datasheet; ComponentLink1URL: http://ww1.microchip.com/downloads/en/DeviceDoc/41106C.pdf; ComponentLink2Description: Package Specification; ComponentLink2URL: http://www.microchip.com/stellent/groups/techpub_sg/documents/packagingspec/en012702.pdf; ComponentLink3Description: URL Link1; ComponentLink3URL: Product URL:http://www.microchip.com/datasheet/PIC16C716
footprint MCHP-PDIP-P18 (DIP, 18-Leads, Body 22.83x6.604mm, Pitch 2.54mm)
pins: 1 RA2/AN2 (io), 2 RA3/AN3/VREF (io), 3 RA4/T0CKI (io), 4 ~{MCLR}/VPP (in), 5 VSS (power) "Ground reference for logic and I/O pins.", 6 RB0/INT (io), 7 RB1/T1OSO/T1CKI (io), 8 RB2/T1OSI (io), 9 RB3/CCP1 (io), 10 RB4 (io) "PORTB is a bidirectional I/O port. PORTB can be software programmed for internal weak pull-ups on all inputs. Digital I/O Interrupt on change pin.", 11 RB5 (io) "PORTB is a bidirectional I/O port. PORTB can be software programmed for internal weak pull-ups on all inputs. Digital I/O Interrupt on change pin.", 12 RB6 (io) "PORTB is a bidirectional I/O port. PORTB can be software programmed for internal weak pull-ups on all inputs. Digital I/O Interrupt on change pin. ICSP programming clock", 13 RB7 (io) "PORTB is a bidirectional I/O port. PORTB can be software programmed for internal weak pull-ups on all inputs. Digital I/O Interrupt on change pin. ICSP programming data", 14 VDD (power) "Positive supply for logic and I/O pins.", 15 OSC2/CLKOUT (out), 16 OSC1/CLKIN (in), 17 RA0/AN0 (io), 18 RA1/AN1 (io)